# Altium schematic symbol library DAC8165.SchLib: 1 symbol
Pins are listed as number, name and electrical type; pins without a type are passive.

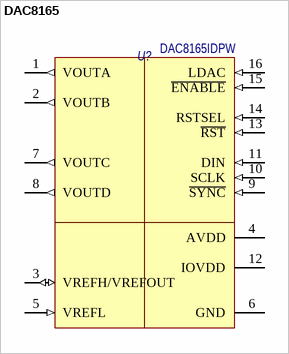
[diagram p0: symbol DAC8165]

## DAC8165
designator U?, comment Наименование: DAC8165IDPW  (hidden comment: DAC8165ID)
14-Bit, Quad Channel, Ultra-Low Glitch, Voltage Output / Digital-to-Analog Converter with 2.5V, 2ppm/°C Internal Reference; Потребление, Вт: 0.01; ComponentLink1Description: DataSheet; ComponentLink1URL: https://www.ti.com/lit/ds/symlink/dac8165.pdf?ts=1651738219634&ref_url=https%253A%252F%252Fwww.ti.com%252Fproduct%252FDAC8165; Назначение: 14-Bit, Quad Channel, Ultra-Low Glitch, Voltage Output
footprint TSSOP-16N (TSSOP, 16-Leads, Body 5,00x4,40mm, Pitch 0,65mm, IPC Medium Density)
pins: 1 VOUTA (out) "Analog output voltage from DAC A", 2 VOUTB (out) "Analog output voltage from DAC B", 3 VREFH/VREFOUT (io) "Positive reference input / reference output 2.5V if internal reference used.", 4 AVDD (power) "Power-supply input, 2.7V to 5.5V", 5 VREFL (in) "Negative reference input", 6 GND (power) "Ground reference point for all circuitry on the part", 7 VOUTC (out) "Analog output voltage from DAC C", 8 VOUTD (out) "Analog output voltage from DAC D", 9 ~{SYNC} (in) ""Level-triggered control input (active low). This input is the frame synchronization signal for the input data. When SYNC / goes low, it enables the input shift register, and data are sampled on subsequent falling clock edges. The DAC output / updates following the 24th clock. If SYNC is taken high before the 24th clock edge, the rising edge of SYNC acts as / an interrupt, and the write sequence is ignored by the DAC8165. Schmitt-Trigger logic input."", 10 SCLK (in) "Serial clock input. Data can be transferred at rates up to 50MHz. Schmitt-Trigger logic input.", 11 DIN (in) ""Serial data input. Data are clocked into the 24-bit input shift register on each falling edge of the serial clock input. / Schmitt-Trigger logic input."", 12 IOVDD (power) "Digital input-output power supply", 13 ~{RST} (in) ""Asynchronous reset. Active low. If RST is low, all DAC channels reset either to zero-scale (RSTSEL = 0) or to / mid-scale (RSTSEL = 1)"", 14 RSTSEL (in) "Reset select. If RSTSEL is low, input coding is binary; if high = two's complement.", 15 ~{ENABLE} (in) "The enable pin (active low) connects the SPI interface to the serial port", 16 LDAC (in) "Load DACs; rising edge triggered, loads all DAC registers"